# Altium schematic symbol library FH34SRJ-45S-0.5SH.Schlib: 1 symbol
Pins are listed as number, name and electrical type; pins without a type are passive.

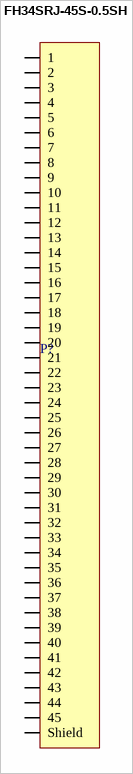
[diagram p0: symbol FH34SRJ-45S-0.5SH]

## FH34SRJ-45S-0.5SH
designator P?
0.5mm Pitch, 45 Pin Right Hirose FPC Connector
pins: 1, 2, 3, 4, 5, 6, 7, 8, 9, 10, 11, 12, 13, 14, 15, 16, 17, 18, 19, 20, 21, 22, 23, 24, 25, 26, 27, 28, 29, 30, 31, 32, 33, 34, 35, 36, 37, 38, 39, 40, 41, 42, 43, 44, 45, 46 Shield